# EAGLE library part TLC5940 (library SparkFun)
TI TLC5940 16-channel LED Driver with Dot Correction and Grayscale PWM Control The TLC5940 is a 16-channel, constant-current sink LED driver. Each channel has an individually adjustable 4096-step grayscale PWM brightness control and a 64-step, constant-current sink (dot correction). The dot correction adjusts the brightness variations between LED channels and other LED drivers. The dot correction data is stored in an integrated EEPROM. Both grayscale control and dot correction are accessible via a serial interface. A single external resistor sets the maximum current value of all 16 channels. Packages: 28-pin HTSSOP 32-pin 5x5mm QFN 28-pin DIP
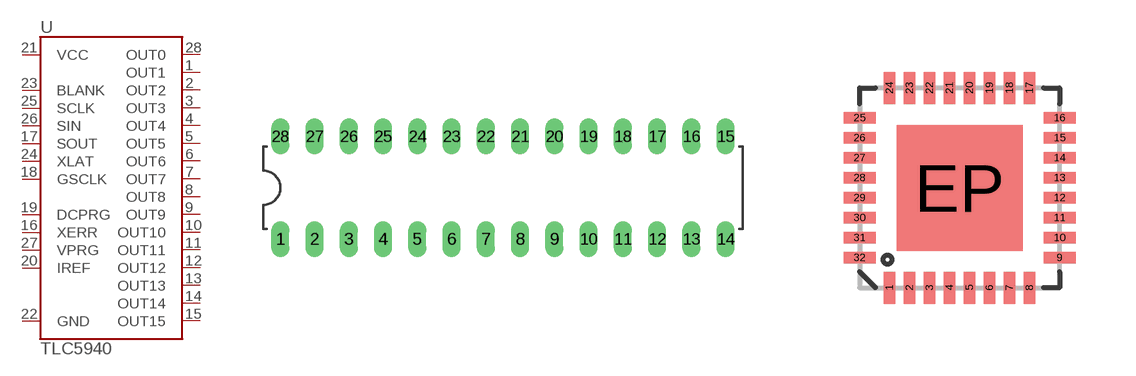
[diagram p353: symbol with the pads of DIL28-3; footprints DIL28-3, QFN-32]

Designator prefix U

## TLC5940-NT  [DIL28-3]
1  OUT1
2  OUT2
3  OUT3
4  OUT4
5  OUT5
6  OUT6
7  OUT7
8  OUT8
9  OUT9
10  OUT10
11  OUT11
12  OUT12
13  OUT13
14  OUT14
15  OUT15
16  XERR
17  SOUT
18  GSCLK
19  DCPRG
20  IREF
21  VCC
22  GND
23  BLANK
24  XLAT
25  SCLK
26  SIN
27  VPRG
28  OUT0

## TLC5940-RHB  [QFN-32]
1  SCLK
2  SIN
3  VPRG
4  OUT0
5  OUT1
6  OUT2
7  OUT3
8  OUT4
9  OUT5
10  OUT6
11  OUT7
14  OUT8
15  OUT9
16  OUT10
17  OUT11
18  OUT12
19  OUT13
20  OUT14
21  OUT15
22  XERR
23  SOUT
24  GSCLK
25  DCPRG
26  IREF
27  VCC
30  GND
31  BLANK
32  XLAT

## TLC5940PWP  [TSSOP28-GROUNDPAD]
1  GND
2  BLANK
3  XLAT
4  SCLK
5  SIN
6  VPRG
7  OUT0
8  OUT1
9  OUT2
10  OUT3
11  OUT4
12  OUT5
13  OUT6
14  OUT7
15  OUT8
16  OUT9
17  OUT10
18  OUT11
19  OUT12
20  OUT13
21  OUT14
22  OUT15
23  XERR
24  SOUT
25  GSCLK
26  DCPRG
27  IREF
28  VCC

## Footprint DIL28-3 (pad centres in mm)
drill 0.813 long: 1 -16.51,-3.81; 2 -13.97,-3.81; 3 -11.43,-3.81; 4 -8.89,-3.81; 5 -6.35,-3.81; 6 -3.81,-3.81; 7 -1.27,-3.81; 8 1.27,-3.81; 9 3.81,-3.81; 10 6.35,-3.81; 11 8.89,-3.81; 12 11.43,-3.81; 13 13.97,-3.81; 14 16.51,-3.81; 15 16.51,3.81; 16 13.97,3.81; 17 11.43,3.81; 18 8.89,3.81; 19 6.35,3.81; 20 3.81,3.81; 21 1.27,3.81; 22 -1.27,3.81; 23 -3.81,3.81; 24 -6.35,3.81; 25 -8.89,3.81; 26 -11.43,3.81; 27 -13.97,3.81; 28 -16.51,3.81

## Footprint QFN-32 (pad centres in mm)
QFN 32-Pin package w/ Thermal Pad ***Unproven*** Applicable Parts: TLC5940
smd 0.285 x 0.8: 1 -1.75,-2.5; 2 -1.25,-2.5; 3 -0.75,-2.5; 4 -0.25,-2.5; 5 0.25,-2.5; 6 0.75,-2.5; 7 1.25,-2.5; 8 1.75,-2.5; 17 1.75,2.5; 18 1.25,2.5; 19 0.75,2.5; 20 0.25,2.5; 21 -0.25,2.5; 22 -0.75,2.5; 23 -1.25,2.5; 24 -1.75,2.5
smd 0.8 x 0.285: 9 2.5,-1.75; 10 2.5,-1.25; 11 2.5,-0.75; 12 2.5,-0.25; 13 2.5,0.25; 14 2.5,0.75; 15 2.5,1.25; 16 2.5,1.75; 25 -2.5,1.75; 26 -2.5,1.25; 27 -2.5,0.75; 28 -2.5,0.25; 29 -2.5,-0.25; 30 -2.5,-0.75; 31 -2.5,-1.25; 32 -2.5,-1.75
smd 3.15 x 3.15: EP 0,0

## Footprint TSSOP28-GROUNDPAD (pad centres in mm)
smd 0.8 x 0.25: 1 -2.921,4.298; 2 -2.921,3.637; 3 -2.921,2.977; 4 -2.921,2.317; 5 -2.921,1.656; 6 -2.921,0.996; 7 -2.921,0.335; 8 -2.927,-0.325; 9 -2.921,-0.985; 10 -2.921,-1.646; 11 -2.921,-2.306; 12 -2.921,-2.967; 13 -2.921,-3.627; 14 -2.921,-4.287; 15 2.921,-4.287; 16 2.921,-3.627; 17 2.921,-2.967; 18 2.921,-2.306; 19 2.921,-1.646; 20 2.921,-0.985; 21 2.927,-0.325; 22 2.921,0.335; 23 2.921,0.996; 24 2.921,1.656; 25 2.921,2.317; 26 2.921,2.977; 27 2.921,3.637; 28 2.921,4.298
smd 3.2 x 6.6: 29 0,0.005